# Altium footprint library MIC29302.PcbLib: 1 footprints
Each footprint in its own frame and in the unit in brackets; x right, y up, seen from the top. Pads: shape width x height; smd on the part's side, far side on the other; paste and mask are expansions set on the pad; w line width, h text height; cw(c..) or ccw(c..) is an arc to the next point about the centre after c.
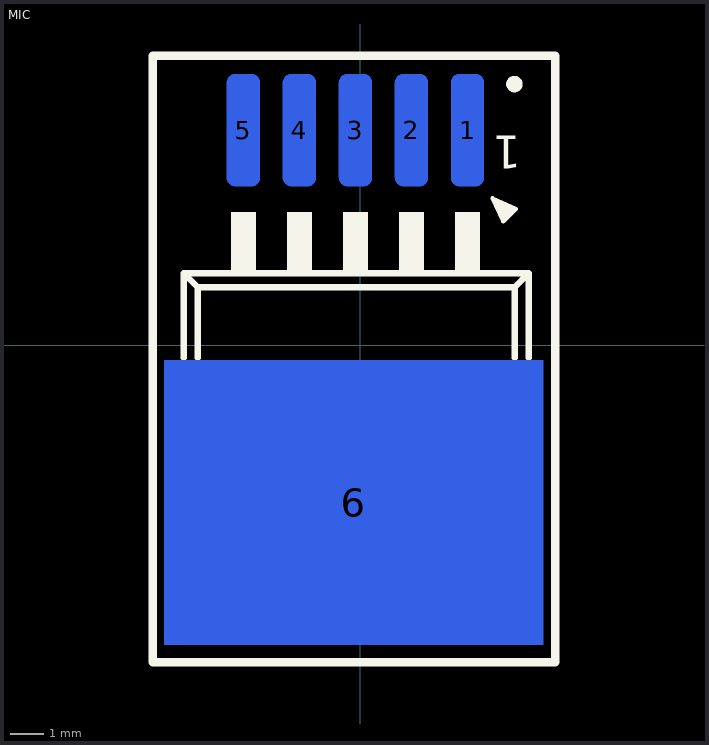
[diagram p0: the footprint, top view; thin cyan lines are the x and y axes]

## MIC [mm]
pads (6):
  rrect50% 1x3.4 smd far side: 1(3.248,6.528) 2(1.548,6.528) 4(-1.852,6.528) 5(-3.552,6.528)
  rrect50% 1x3.4 smd far side mask+0: 3(-0.152,6.528)
  rect 11.5x8.634 smd far side: 6(-0.202,-4.774)
Top Overlay:
  circle w0.25: c4.672,7.925 r0.125
  region: 3.627,4.039 2.868,4.039 2.868,2.159 3.627,2.159
  region: 1.927,4.039 1.168,4.039 1.168,2.159 1.927,2.159
  region: 0.227,4.039 -0.532,4.039 -0.532,2.159 0.227,2.159
  region: -1.473,4.039 -2.231,4.039 -2.231,2.159 -1.473,2.159
  region: -3.173,4.039 -3.931,4.039 -3.931,2.159 -3.173,2.159
  lines w0.127: 4.002,4.462 4.332,3.751 4.522,3.943 ; 4.002,4.462 4.713,4.132 4.522,3.943 ; 4.002,4.462 4.522,3.943
  lines w0.178: 4.205,4.106 4.383,3.929 ; 4.358,4.259 4.536,4.081
  lines w0.2: -5.358,-0.37 -5.358,2.184 ; -4.935,-0.374 -4.935,1.761 ; 4.678,-0.374 4.678,1.761 ; 5.102,-0.37 5.102,2.184 ; -5.358,2.184 5.102,2.184 ; -5.358,2.184 -4.935,1.761 ; -4.935,1.761 4.678,1.761 ; 4.678,1.761 5.102,2.184
  lines w0.254: -6.296,-9.615 5.904,-9.615 5.904,8.782 -6.296,8.782 -6.296,-9.615
  text "1" at 4.873,6.35 h1
3D body "SW3dPS-TO-263 5Ld.STEP": height 4.57, standoff -0.01, extent -5.08,-7.116 5.08,7.525